# EAGLE library part ATTINY85 (library Microchip)
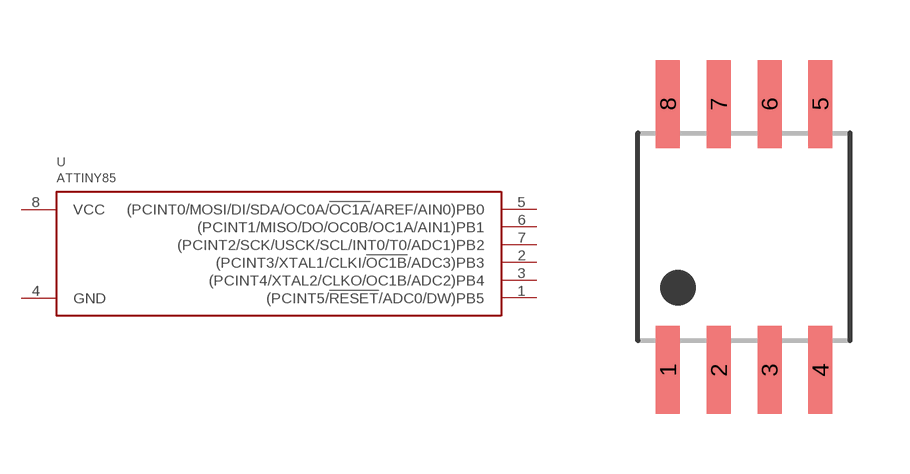
[diagram p15: symbol with the pads of WSOIC8; footprint WSOIC8]

Designator prefix U

## ATTINY85  [WSOIC8]
1  (PCINT5/!RESET!/ADC0/DW)PB5
2  (PCINT3/XTAL1/CLKI/!OC1B!/ADC3)PB3
3  (PCINT4/XTAL2/CLKO/OC1B/ADC2)PB4
4  GND  pwr
5  (PCINT0/MOSI/DI/SDA/OC0A/!OC1A!/AREF/AIN0)PB0
6  (PCINT1/MISO/DO/OC0B/OC1A/AIN1)PB1
7  (PCINT2/SCK/USCK/SCL/INT0/T0/ADC1)PB2
8  VCC  pwr

## Footprint WSOIC8 (pad centres in mm)
smd 0.6 x 2.2: 1 -1.905,-3.33; 2 -0.635,-3.33; 3 0.635,-3.33; 4 1.905,-3.33; 5 1.905,3.33; 6 0.635,3.33; 7 -0.635,3.33; 8 -1.905,3.33